# Altium schematic symbol library e-Paper.SchLib: 9 symbols
Pins are listed as number, name and electrical type; pins without a type are passive.

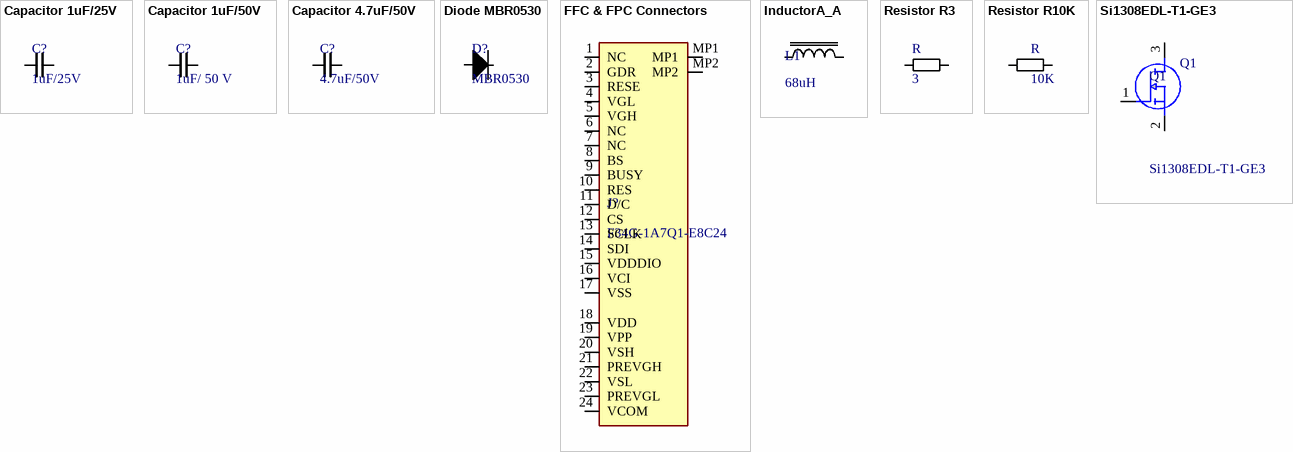
[diagram p0: symbols Capacitor 1uF/25V to Si1308EDL-T1-GE3]

## Capacitor 1uF/25V
designator C?, comment 1uF/25V
25V
footprint 0402_CAP_REFLOW
pins: 1, 2

## Capacitor 1uF/50V
designator C?, comment 1uF/ 50 V
50 V
footprint 0402_CAP_REFLOW
pins: 1, 2

## Capacitor 4.7uF/50V
designator C?, comment 4.7uF/50V
50V
footprint 0402_CAP_REFLOW
pins: 1, 2

## Diode MBR0530
designator D?, comment MBR0530
footprint SOD3716X135N
pins: 1 A, 2 K

## FFC & FPC Connectors
designator J?, comment F34G-1A7Q1-E8C24
footprint F34G1A7Q1E8C24
pins: 1 NC, 2 GDR, 3 RESE, 4 VGL, 5 VGH, 6 NC, 7 NC, 8 BS, 9 BUSY, 10 RES, 11 D/C, 12 CS, 13 SCLK, 14 SDI, 15 VDDDIO, 16 VCI, 17 VSS, 18 VDD, 19 VPP, 20 VSH, 21 PREVGH, 22 VSL, 23 PREVGL, 24 VCOM, MP1, MP2

## InductorA_A
designator L1, comment 68uH
SRR5828A-680M
footprint SRR5828A2R6Y
pins: 1, 2

## Resistor R3
designator R, comment 3
footprint 0402_RES_REFLOW
pins: 1, 2

## Resistor R10K
designator R, comment 10K
footprint 0402_RES_REFLOW
pins: 1, 2

## Si1308EDL-T1-GE3
designator Q1
MOSFET N-Ch 30V 1.5A TrenchFET SC70 Vishay Si1308EDL-T1-GE3 N-channel MOSFET Transistor, 1.5 A, 30 V, 3-Pin SC-70; Geometry.Height: 1.1mm; Mouser Part Number: 78-SI1308EDL-T1-GE3; Mouser Price/Stock: https://www.mouser.co.uk/ProductDetail/Vishay-Semiconductors/SI1308EDL-T1-GE3?qs=bX1%252BNvsK%2FBramh9tgpOaEw%3D%3D; Manufacturer_Name: Vishay; Manufacturer_Part_Number: Si1308EDL-T1-GE3; Datasheet Link: https://componentsearchengine.com/Datasheets/1/SI1308EDL-T1-GE3.pdf
footprint SOT65P210X110-3N
pins: 1 G, 2 S, 3 D